# Altium schematic symbol library SN74HC163.SchLib: 1 symbol
Pins are listed as number, name and electrical type; pins without a type are passive.

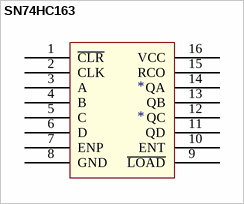
[diagram p0: symbol SN74HC163]

## SN74HC163
designator *
pins: 1 ~{CLR}, 2 CLK, 3 A, 4 B, 5 C, 6 D, 7 ENP, 8 GND (power), 9 ~{LOAD}, 10 ENT, 11 QD, 12 QC, 13 QB, 14 QA, 15 RCO, 16 VCC (power)